# EAGLE library part SC18IS602 (library neels)
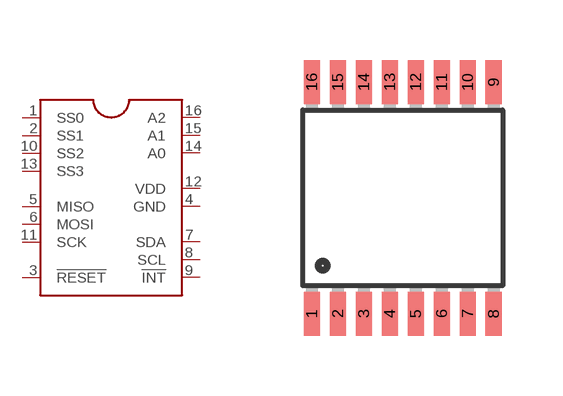
[diagram p14: symbol with the pads of TSSOP-16; footprint TSSOP-16]

Designator prefix -

## SC18IS602  [TSSOP-16]
1  SS0
2  SS1
3  !RESET
4  GND
5  MISO
6  MOSI
7  SDA
8  SCL
9  !INT
10  SS2
11  SCK
12  VDD
13  SS3
14  A0
15  A1
16  A2

## Footprint TSSOP-16 (pad centres in mm)
smd 0.4 x 1.1: 1 -2.275,-2.9; 2 -1.625,-2.9; 3 -0.975,-2.9; 4 -0.325,-2.9; 5 0.325,-2.9; 6 0.975,-2.9; 7 1.625,-2.9; 8 2.275,-2.9; 9 2.275,2.9; 10 1.625,2.9; 11 0.975,2.9; 12 0.325,2.9; 13 -0.325,2.9; 14 -0.975,2.9; 15 -1.625,2.9; 16 -2.275,2.9